# EAGLE library part IC6 (library CAN_BUS_Interface_v2)
EEPROM 93LC46B/SN Microwire serielle EEPROMs Bezeichnung EEPROM 93LC46B/SN ; Speichergr. (KBit) 1K ; Organisation 64X16 ; Gehäuse SOIC
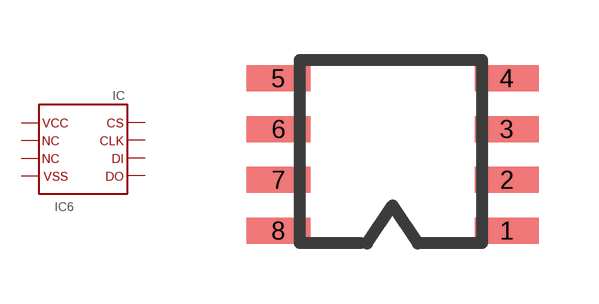
[diagram p6: symbol with the pads of IC6; footprint IC6]

Designator prefix IC

## IC6  [IC6]
1  CS  in
2  CLK  pas
3  DI  in
4  DO  out
5  VSS  pwr
6  NC  nc
7  NC  nc
8  VCC  pwr

## Footprint IC6 (pad centres in mm)
8-SMD-1
smd 1.6 x 0.65: 1 0,0; 2 0,1.27; 3 0,2.54; 4 0,3.81; 5 -5.715,3.81; 6 -5.715,2.54; 7 -5.715,1.27; 8 -5.715,0